# Altium schematic symbol library SN74AVC4T245RGYR.Schlib: 1 symbol
Pins are listed as number, name and electrical type; pins without a type are passive.

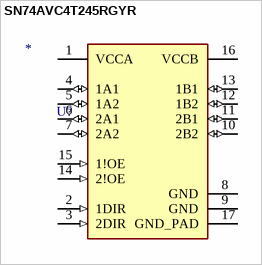
[diagram p0: symbol SN74AVC4T245RGYR]

## SN74AVC4T245RGYR
designator U?
Value: *
pins: 1 VCCA (power), 2 1DIR (in), 3 2DIR (in), 4 1A1 (io), 5 1A2 (io), 6 2A1 (io), 7 2A2 (io), 8 GND (power), 9 GND (power), 10 2B2 (io), 11 2B1 (io), 12 1B2 (io), 13 1B1 (io), 14 2!OE (in), 15 1!OE (in), 16 VCCB (power), 17 GND_PAD (power)